# Altium schematic symbol library RC0805JR-7W0RL.SchLib: 1 symbol
Pins are listed as number, name and electrical type; pins without a type are passive.

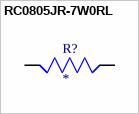
[diagram p0: symbol RC0805JR-7W0RL]

## RC0805JR-7W0RL
designator R?
RC Series 0805 0.125 W 2 kOhms 5% Â±100 ppm/Â°C SMT Thick Film Chip Resistor; MP: RC0805JR-7W0RL; MF: {'manufacturer': u'Yageo'}; Package: None; Value: *; Price: None; Availability: Unavailable
footprint RESC2012X60
pins: 1, 2